# Altium integrated library 5-146278-8.IntLib: 1 symbol
Pins are listed as number, name and electrical type; pins without a type are passive.

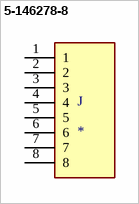
[diagram p0: symbol 5-146278-8]

## 5-146278-8
designator J
Connector Header Through Hole 8 position 0.100 (2.54mm); MF: TE Connectivity; MP: 5-146278-8; SnapEDA_Link: https://www.snapeda.com/parts/5-146278-8/TE%20Connectivity%20AMP%20Connectors/view-part/2411711/?ref=snap; EU_RoHS_Compliance: Compliant; Value: *; DigiKey-Purchase-URL: https://snapeda.com/shop?store=DigiKey&id=2411711; Package: None; Price: None; Availability: Unavailable; Mouser-Purchase-URL: https://snapeda.com/shop?store=Mouser&id=2411711
footprint TE_5-146278-8
pins: 1, 2, 3, 4, 5, 6, 7, 8